# Altium footprint library PG-LLGA-5-3.PcbLib: 1 footprints
Each footprint in its own frame and in the unit in brackets; x right, y up, seen from the top. Pads: shape width x height; smd on the part's side, far side on the other; paste and mask are expansions set on the pad; w line width, h text height; cw(c..) or ccw(c..) is an arc to the next point about the centre after c.
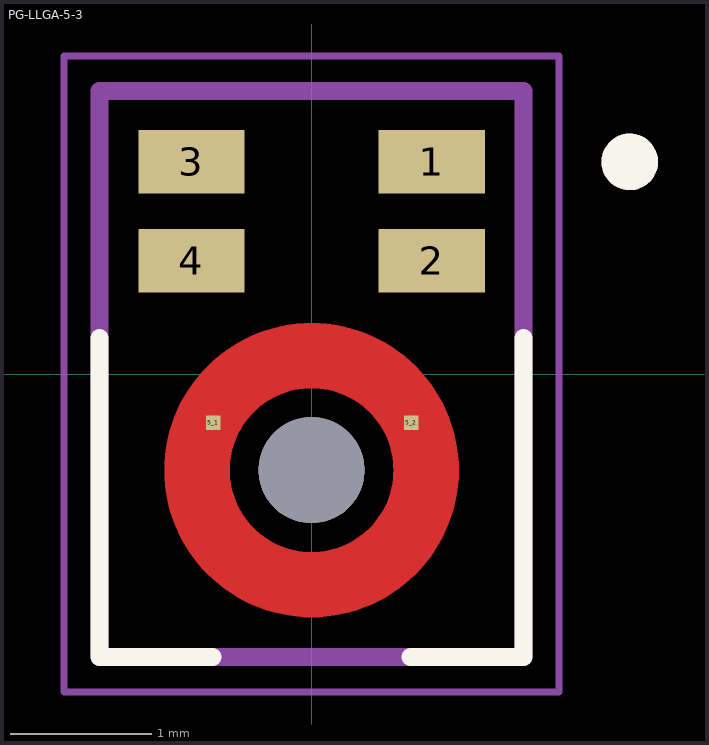
[diagram p0: the footprint, top view; thin cyan lines are the x and y axes]

## PG-LLGA-5-3 [mm]
pads (7):
  rect 0.75x0.45 smd paste-1 mask+0.05: 1(0.85,1.5) 2(0.85,0.8) 3(-0.85,1.5) 4(-0.85,0.8)
  rect 0.1x0.1 smd paste-1 mask+0: 5_1(-0.695,-0.345) 5_2(0.705,-0.345)
  round 0.75 hole 0.75 unplated mask+0.05: ""(0,-0.68)
Top Layer:
  region: 0.054,0.359 0.109,0.354 0.163,0.347 0.216,0.337 0.269,0.325 0.321,0.309 0.373,0.291 0.423,0.27 0.472,0.247 0.52,0.221 0.566,0.192 0.611,0.161 0.654,0.128 0.696,0.093 0.735,0.055 0.773,0.016 0.808,-0.026 0.841,-0.069 0.872,-0.114 0.901,-0.16 0.927,-0.208 0.95,-0.257 0.971,-0.307 0.989,-0.359 1.005,-0.411 1.017,-0.464 1.027,-0.517 1.034,-0.571 1.039,-0.626 1.04,-0.68 1.039,-0.734 1.034,-0.789 1.027,-0.843 1.017,-0.896 1.005,-0.949 0.989,-1.001 0.971,-1.053 0.95,-1.103 0.927,-1.152 0.901,-1.2 0.872,-1.246 0.841,-1.291 0.808,-1.334 0.773,-1.376 0.735,-1.415 0.696,-1.453 0.654,-1.488 0.611,-1.521 0.566,-1.552 0.52,-1.581 0.472,-1.607 0.423,-1.63 0.373,-1.651 0.321,-1.669 0.269,-1.685 0.216,-1.697 0.163,-1.707 0.109,-1.714 0.054,-1.719 0,-1.72 0,-1.26 0.03,-1.259 0.061,-1.257 0.091,-1.253 0.121,-1.247 0.15,-1.24 0.179,-1.232 0.208,-1.221 0.236,-1.21 0.263,-1.197 0.29,-1.182 0.316,-1.166 0.341,-1.149 0.365,-1.131 0.388,-1.111 0.41,-1.09 0.431,-1.068 0.451,-1.045 0.469,-1.021 0.486,-0.996 0.502,-0.97 0.517,-0.943 0.53,-0.916 0.541,-0.888 0.552,-0.859 0.56,-0.83 0.567,-0.801 0.573,-0.771 0.577,-0.741 0.579,-0.71 0.58,-0.68 0.579,-0.65 0.577,-0.619 0.573,-0.589 0.567,-0.559 0.56,-0.53 0.552,-0.501 0.541,-0.472 0.53,-0.444 0.517,-0.417 0.502,-0.39 0.486,-0.364 0.469,-0.339 0.451,-0.315 0.431,-0.292 0.41,-0.27 0.388,-0.249 0.365,-0.229 0.341,-0.211 0.316,-0.194 0.29,-0.178 0.263,-0.163 0.236,-0.15 0.208,-0.139 0.179,-0.128 0.15,-0.12 0.121,-0.113 0.091,-0.107 0.061,-0.103 0.03,-0.101 0,-0.1 0,0.36
  region: 0,-0.1 -0.03,-0.101 -0.061,-0.103 -0.091,-0.107 -0.121,-0.113 -0.15,-0.12 -0.179,-0.128 -0.208,-0.139 -0.236,-0.15 -0.263,-0.163 -0.29,-0.178 -0.316,-0.194 -0.341,-0.211 -0.365,-0.229 -0.388,-0.249 -0.41,-0.27 -0.431,-0.292 -0.451,-0.315 -0.469,-0.339 -0.486,-0.364 -0.502,-0.39 -0.517,-0.417 -0.53,-0.444 -0.541,-0.472 -0.552,-0.501 -0.56,-0.53 -0.567,-0.559 -0.573,-0.589 -0.577,-0.619 -0.579,-0.65 -0.58,-0.68 -0.579,-0.71 -0.577,-0.741 -0.573,-0.771 -0.567,-0.801 -0.56,-0.83 -0.552,-0.859 -0.541,-0.888 -0.53,-0.916 -0.517,-0.943 -0.502,-0.97 -0.486,-0.996 -0.469,-1.021 -0.451,-1.045 -0.431,-1.068 -0.41,-1.09 -0.388,-1.111 -0.365,-1.131 -0.341,-1.149 -0.316,-1.166 -0.29,-1.182 -0.263,-1.197 -0.236,-1.21 -0.208,-1.221 -0.179,-1.232 -0.15,-1.24 -0.121,-1.247 -0.091,-1.253 -0.061,-1.257 -0.03,-1.259 0,-1.26 0,-1.72 -0.054,-1.719 -0.109,-1.714 -0.163,-1.707 -0.216,-1.697 -0.269,-1.685 -0.321,-1.669 -0.373,-1.651 -0.423,-1.63 -0.472,-1.607 -0.52,-1.581 -0.566,-1.552 -0.611,-1.521 -0.654,-1.488 -0.696,-1.453 -0.735,-1.415 -0.773,-1.376 -0.808,-1.334 -0.841,-1.291 -0.872,-1.246 -0.901,-1.2 -0.927,-1.152 -0.95,-1.103 -0.971,-1.053 -0.989,-1.001 -1.005,-0.949 -1.017,-0.896 -1.027,-0.843 -1.034,-0.789 -1.039,-0.734 -1.04,-0.68 -1.039,-0.626 -1.034,-0.571 -1.027,-0.517 -1.017,-0.464 -1.005,-0.411 -0.989,-0.359 -0.971,-0.307 -0.95,-0.257 -0.927,-0.208 -0.901,-0.16 -0.872,-0.114 -0.841,-0.069 -0.808,-0.026 -0.773,0.016 -0.735,0.055 -0.696,0.093 -0.654,0.128 -0.611,0.161 -0.566,0.192 -0.52,0.221 -0.472,0.247 -0.423,0.27 -0.373,0.291 -0.321,0.309 -0.269,0.325 -0.216,0.337 -0.163,0.347 -0.109,0.354 -0.054,0.359 0,0.36
Top Overlay:
  circle w0.2: c2.25,1.5 r0.1
  lines w0.127: -1.5,0.255 -1.5,-2 -0.7,-2 ; 0.7,-2 1.5,-2 1.5,0.255
Top Paste:
  drawing of 10 lines, arcs and shapes, not listed
Top Solder:
  drawing of 2 lines, arcs and shapes, not listed
Top 3D Body:
  circle w0.2: c2.25,1.5 r0.1
  lines w0.127: -1.5,-2 -1.5,2 1.5,2 1.5,-2 -1.5,-2
Top Courtyard:
  lines w0.05: -1.75,-2.25 1.75,-2.25 1.75,2.25 -1.75,2.25 -1.75,-2.25
3D body "PG-LLGA-5-4_Z8B00190520_V03_3D.stp": height 1.29, standoff 0, extent -1.5,-2 1.5,2